# Altium footprint library TEMD_lib.PcbLib: 7 footprints
Each footprint in its own frame and in the unit in brackets; x right, y up, seen from the top. Pads: shape width x height; smd on the part's side, far side on the other; paste and mask are expansions set on the pad; w line width, h text height; cw(c..) or ccw(c..) is an arc to the next point about the centre after c.
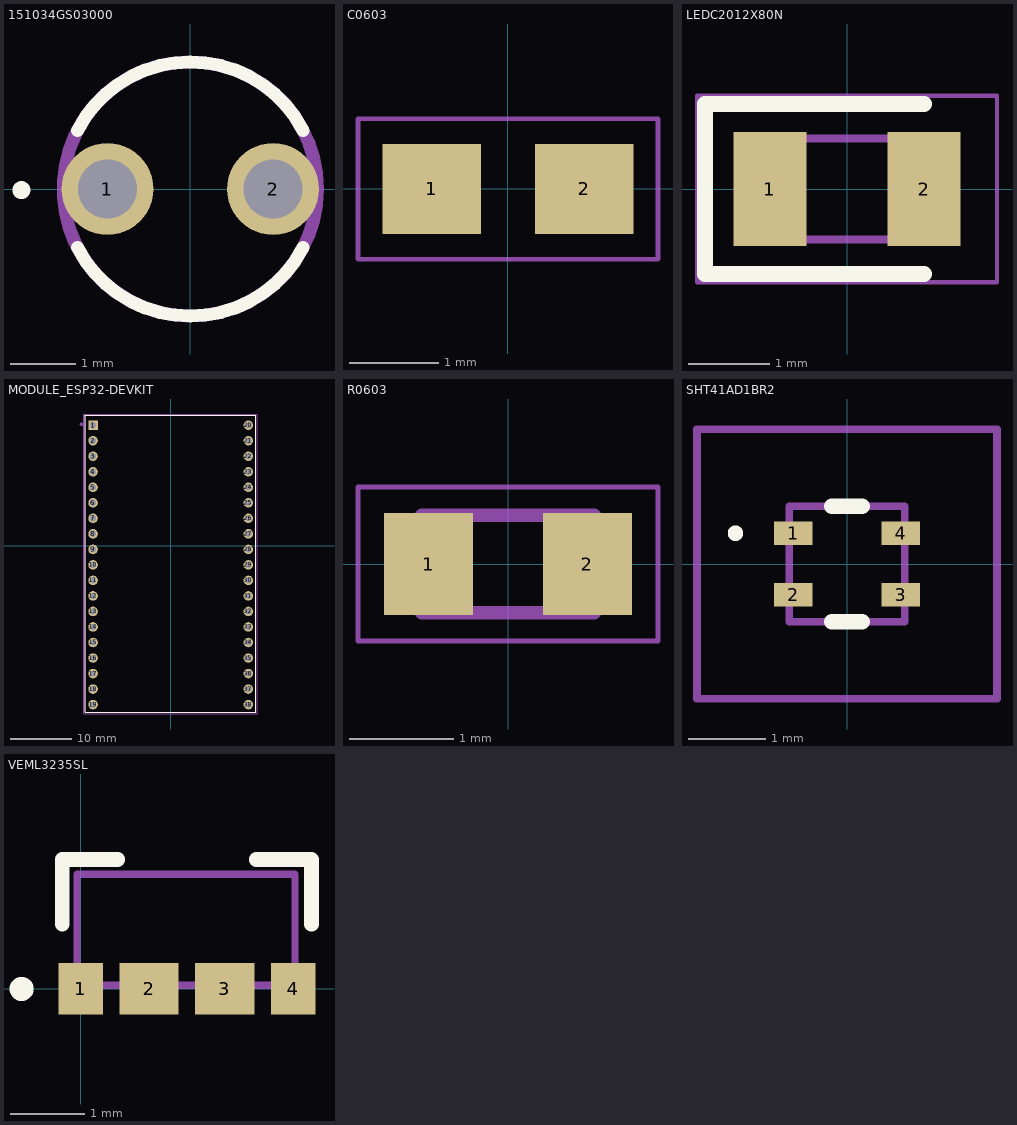
[diagram p0: the footprints below, top view; thin cyan lines are the x and y axes]

## 151034GS03000 [mm]
pads (2):
  round 1.41 hole 0.91: 1(-1.27,0) 2(1.27,0)
Top Overlay:
  circle w0.2: c-2.59,-0.017 r0.037
  lines w0.2: -1.73,-0.9 ccw(c0,0) 1.73,-0.9 ; -1.73,0.9 cw(c0,0) 1.73,0.9
Mechanical 13:
  circle w0.2: c0,0 r1.95
3D body "151031VS06000.stp": height 5.46, standoff -26.24, extent -1.975,-1.975 1.645,1.975

## C0603 [mm]
pads (2):
  rect 1.1x1 smd: 1(-0.85,0) 2(0.85,0)
Mechanical 15:
  lines w0.051: -1.673,-0.783 -1.673,0.783 1.673,0.783 1.673,-0.783 -1.673,-0.783
3D body "C0603C181J5GAC.STEP": height 0.8, standoff 0, extent -0.8,-0.432 0.8,0.438

## LEDC2012X80N [mm]
pads (2):
  rect 0.9x1.4 smd: 1(-0.95,0) 2(0.95,0)
Top Overlay:
  lines w0.2: 0.95,-1.05 -1.75,-1.05 -1.75,1.05 0.95,1.05
Mechanical 13:
  lines w0.1: -1,0.208 -0.583,0.625 ; -1,-0.625 -1,0.625 1,0.625 1,-0.625 -1,-0.625
Mechanical 15:
  lines w0.05: -1.85,-1.15 -1.85,1.15 1.85,1.15 1.85,-1.15 -1.85,-1.15
3D body "150080YS75000.stp": height 0.7, standoff 0, extent -1.03,-0.625 0.97,0.625

## MODULE_ESP32-DEVKIT [mm]
pads (38):
  rect 1.56x1.56 hole 1.04: 1(-12.7,19.76)
  round 1.56 hole 1.04: 2(-12.7,17.22) 3(-12.7,14.68) 4(-12.7,12.14) 5(-12.7,9.6) 6(-12.7,7.06) 7(-12.7,4.52) 8(-12.7,1.98) 9(-12.7,-0.56) 10(-12.7,-3.1) 11(-12.7,-5.64) 12(-12.7,-8.18) 13(-12.7,-10.72) 14(-12.7,-13.26) 15(-12.7,-15.8) 16(-12.7,-18.34) 17(-12.7,-20.88) 18(-12.7,-23.42) 19(-12.7,-25.96) 20(12.7,19.76) 21(12.7,17.22) 22(12.7,14.68) 23(12.7,12.14) 24(12.7,9.6) 25(12.7,7.06) 26(12.7,4.52) 27(12.7,1.98) 28(12.7,-0.56) 29(12.7,-3.1) 30(12.7,-5.64) 31(12.7,-8.18) 32(12.7,-10.72) 33(12.7,-13.26) 34(12.7,-15.8) 35(12.7,-18.34) 36(12.7,-20.88) 37(12.7,-23.42) 38(12.7,-25.96)
Top Overlay:
  lines w0.127: -13.95,-27.25 -13.95,21.361 13.95,21.361 13.95,-27.25 -13.95,-27.25
Mechanical 13:
  circle w0.28: c-14.6,19.9 r0.14
  lines w0.127: -13.95,-27.25 13.95,-27.25 13.95,21.361 -13.95,21.361 -13.95,-27.25
Mechanical 15:
  lines w0.05: -14.2,-27.5 14.2,-27.5 14.2,21.59 -14.2,21.59 -14.2,-27.5

## R0603 [mm]
pads (2):
  rect 0.86x0.98 smd: 1(-0.765,0) 2(0.765,0)
Mechanical 13:
  lines w0.127: -0.83,-0.47 -0.83,0.47 0.83,0.47 0.83,-0.47 -0.83,-0.47
Mechanical 15:
  lines w0.05: -1.444,-0.74 -1.444,0.74 1.444,0.74 1.444,-0.74 -1.444,-0.74
3D body "CRCW0603523KFKTA.STEP": height 0.5, standoff 0, extent -0.775,-0.425 0.775,0.425

## SHT41AD1BR2 [mm]
pads (4):
  rect 0.5x0.3 smd: 1(-0.7,0.4) 2(-0.7,-0.4) 3(0.7,-0.4) 4(0.7,0.4)
Top Overlay:
  lines w0.1: -1.5,0.4 ccw(c-1.45,0.4) -1.4,0.4 ccw(c-1.45,0.4) -1.5,0.4
  lines w0.2: -0.2,-0.75 0.2,-0.75 ; -0.2,0.75 0.2,0.75
Mechanical 13:
  lines w0.1: -0.75,-0.75 0.75,-0.75 0.75,0.75 -0.75,0.75 -0.75,-0.75
Mechanical 15:
  lines w0.1: -1.95,-1.75 1.95,-1.75 1.95,1.75 -1.95,1.75 -1.95,-1.75
3D body "SHT41-AD1B-R2.stp": height 0.69, standoff 0, extent -0.75,-0.75 0.75,0.75

## VEML3235SL [mm]
pads (4):
  rect 0.6x0.7 smd: 1(0,0) 4(2.875,0)
  rect 0.8x0.7 smd: 2(0.925,0) 3(1.95,0)
Top Overlay:
  circle w0.254: c-0.8,0 r0.035
  lines w0.2: -0.25,0.875 -0.25,1.75 0.5,1.75 ; 2.375,1.75 3.125,1.75 3.125,0.875
Mechanical 13:
  lines w0.1: -0.05,0.05 -0.05,1.55 2.9,1.55 2.9,0.05 -0.05,0.05
3D body: height 1, standoff 0, extent -0.05,0.05 2.9,1.55